# EAGLE library part A111 (library a111)
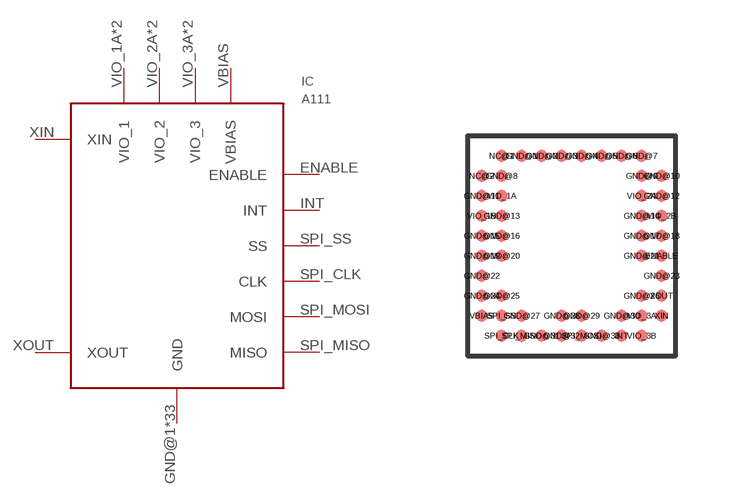
[diagram p0: symbol with the pads of A111; footprint A111]

Designator prefix IC

## A111  [A111]
ENABLE  ENABLE
GND@1  GND
GND@2  GND
GND@3  GND
GND@4  GND
GND@5  GND
GND@6  GND
GND@7  GND
GND@8  GND
GND@9  GND
GND@10  GND
GND@11  GND
GND@12  GND
GND@13  GND
GND@14  GND
GND@15  GND
GND@16  GND
GND@17  GND
GND@18  GND
GND@19  GND
GND@20  GND
GND@21  GND
GND@22  GND
GND@23  GND
GND@24  GND
GND@25  GND
GND@26  GND
GND@27  GND
GND@28  GND
GND@29  GND
GND@30  GND
GND@31  GND
GND@32  GND
GND@33  GND
INT  INT
SPI_CLK  CLK
SPI_MISO  MISO
SPI_MOSI  MOSI
SPI_SS  SS
VBIAS  VBIAS
VIO_1A  VIO_1
VIO_1B  VIO_1
VIO_2A  VIO_2
VIO_2B  VIO_2
VIO_3A  VIO_3
VIO_3B  VIO_3
XIN  XIN
XOUT  XOUT

## Footprint A111 (pad centres in mm)
smd 0.3 x 0.3: ENABLE 2.25,-0.25; GND@1 -1.25,2.25; GND@2 -0.75,2.25; GND@3 -0.25,2.25; GND@4 0.25,2.25; GND@5 0.75,2.25; GND@6 1.25,2.25; GND@7 1.75,2.25; GND@8 -1.75,1.75; GND@9 1.75,1.75; GND@10 2.25,1.75; GND@11 -2.25,1.25; GND@12 2.25,1.25; GND@13 -1.75,0.75; GND@14 1.75,0.75; GND@15 -2.25,0.25; GND@16 -1.75,0.25; GND@17 1.75,0.25; GND@18 2.25,0.25; GND@19 -2.25,-0.25; GND@20 -1.75,-0.25; GND@21 1.75,-0.25; GND@22 -2.25,-0.75; GND@23 2.25,-0.75; GND@24 -2.25,-1.25; GND@25 -1.75,-1.25; GND@26 1.75,-1.25; GND@27 -1.25,-1.75; GND@28 -0.25,-1.75; GND@29 0.25,-1.75; GND@30 1.25,-1.75; GND@31 -0.75,-2.25; GND@32 -0.25,-2.25; GND@33 0.75,-2.25; INT 1.25,-2.25; NC@1 -1.75,2.25; NC@2 -2.25,1.75; SPI_CLK -1.75,-2.25; SPI_MISO -1.25,-2.25; SPI_MOSI 0.25,-2.25; SPI_SS -1.75,-1.75; VBIAS -2.25,-1.75; VIO_1A -1.75,1.25; VIO_1B -2.25,0.75; VIO_2A 1.75,1.25; VIO_2B 2.25,0.75; VIO_3A 1.75,-1.75; VIO_3B 1.75,-2.25; XIN 2.25,-1.75; XOUT 2.25,-1.25